# Altium schematic symbol library ADUM142D0BRQZ-RL7.SchLib: 1 symbol
Pins are listed as number, name and electrical type; pins without a type are passive.

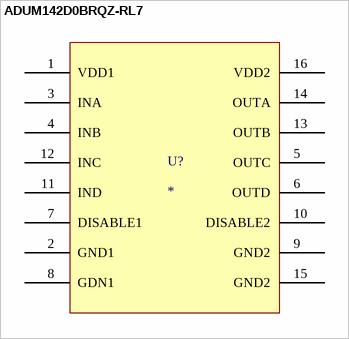
[diagram p0: symbol ADUM142D0BRQZ-RL7]

## ADUM142D0BRQZ-RL7
designator U?
General Purpose Digital Isolator 3000Vrms 4 Channel 150Mbps 75kV/µs CMTI 16-SSOP (0.154", 3.90mm Width)
footprint SOP64P600X175-16N (SOP, 16-Leads, Body 4.90x3.91mm, Pitch 0.64mm, IPC Medium Density)
pins: 1 VDD1, 2 GND1, 3 INA, 4 INB, 5 OUTC, 6 OUTD, 7 DISABLE1, 8 GDN1, 9 GND2, 10 DISABLE2, 11 IND, 12 INC, 13 OUTB, 14 OUTA, 15 GND2, 16 VDD2